# Altium footprint library PcbLib1.PcbLib: 12 footprints
Each footprint in its own frame and in the unit in brackets; x right, y up, seen from the top. Pads: shape width x height; smd on the part's side, far side on the other; paste and mask are expansions set on the pad; w line width, h text height; cw(c..) or ccw(c..) is an arc to the next point about the centre after c.
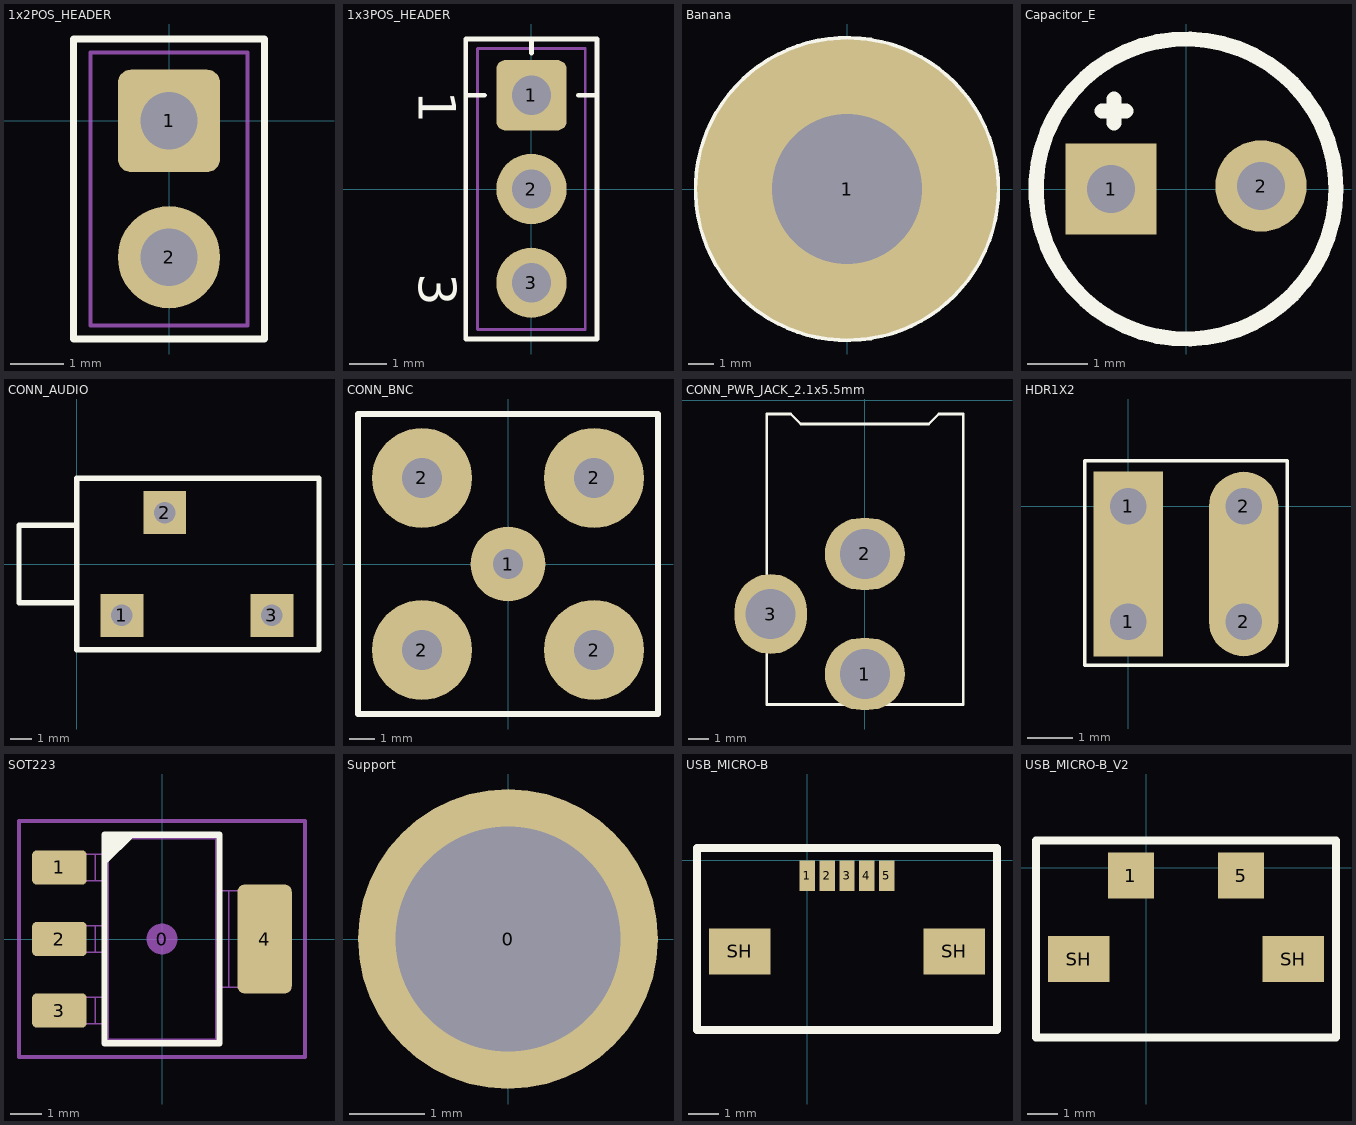
[diagram p0: the footprints below, top view; thin cyan lines are the x and y axes]

## 1x2POS_HEADER [mil] "Connector Header, Single-row 3-position, 0.100\" pitch"
height 235
pads (2):
  rrect25% 75x75 hole 42: 1(0,0)
  round 75 hole 42: 2(0,-100)
Top Overlay:
  lines w5: -70,-160 70,-160 70,60 -70,60 -70,-160
Mechanical 13:
  lines w3: -57.47,-150 57.49,-150 57.49,50 -57.47,50 -57.47,-150

## 1x3POS_HEADER [mil] "Connector Header, Single-row 3-position, 0.100\" pitch"
height 235
pads (3):
  rrect25% 75x75 hole 42: 1(0,100)
  round 75 hole 42: 2(0,0) 3(0,-100)
Top Overlay:
  lines w5: -70,100 -50,100 ; 0,145 0,160 ; 50,100 70,100 ; -70,-160 -70,160 70,160 70,-160 -70,-160
  text "3" at -120,-90 h40
  text "1" at -120,105 h40
Mechanical 13:
  lines w3: -57.47,-150 -57.47,150 57.49,150 57.49,-150 -57.47,-150
3D body: height 335.04, standoff -144.88, extent -57.47,-150 57.49,150

## Banana [mm] "Female"
pads (1):
  round 12 hole 6: 1(0,0)
Top Overlay:
  circle w0.254: c0,0 r6

## Capacitor_E [mm]
pads (2):
  rect 1.524x1.524 hole 0.8: 1(-1.25,0)
  round 1.524 hole 0.8: 2(1.25,0.05)
Top Overlay:
  circle w0.254: c0,0 r2.5
  lines w0.254: -1.4,1.3 -1.2,1.3 ; -1.2,1.1 -1.2,1.3 ; -1.2,1.5 -1.2,1.3 ; -1,1.3 -1.2,1.3
3D body: height 1.5, standoff -12, extent -2.493,-2.45 2.493,2.55

## CONN_AUDIO [mm]
pads (3):
  rect 2x2 hole 1: 1(2.1,-2.4) 2(4.1,2.4) 3(9.1,-2.4)
Top Overlay:
  lines w0.254: 0,-1.8 -2.7,-1.8 -2.7,1.8 0,1.8 ; 0,-4 0,4 11.3,4 11.3,-4 0,-4

## CONN_BNC [mm]
pads (5):
  round 3 hole 1.2: 1(0,0)
  round 4 hole 1.6: 2(-3.44,-3.44) 2(-3.44,3.44) 2(3.44,-3.44) 2(3.44,3.44)
Top Overlay:
  lines w0.254: -6,-6 -6,6 6,6 6,-6 -6,-6

## CONN_PWR_JACK_2.1x5.5mm [mm] "Power Connector, 2.1mm ID, 5.5mm OD"
height 11
pads (3):
  oval 4x3.6 hole 2.5: 1(0,-13.7) 2(0,-7.7)
  oval 3.6x4 hole 2.5: 3(-4.7,-10.7)
Top Overlay:
  lines w0.127: -4.9,-12.4 -4.9,-15.225 4.925,-15.225 4.925,-0.7 3.7,-0.7 3.2,-1.2 -3.2,-1.2 -3.7,-0.7 -4.9,-0.7 -4.9,-9
Mechanical 13:
  lines w0.076: -4.9,-12.4 -4.9,-15.225 4.925,-15.225 4.925,-0.7 3.7,-0.7 3.2,-1.2 -3.2,-1.2 -3.7,-0.7 -4.9,-0.7 -4.9,-9
3D body: height 11, standoff -3.5, extent -4.9,-14.1 4.5,0

## HDR1X2 [mil] "Connector; Header; 2 Position"
pads (4):
  rect 60x160 hole 31.5 copper offset 0,50: 1(0,-100)
  rect 60x160 hole 31.5 copper offset 0,-50: 1(0,0)
  oval 60x160 hole 31.5 copper offset 0,50: 2(100,-100)
  oval 60x160 hole 31.5 copper offset 0,-50: 2(100,0)
Top Overlay:
  lines w3: -37.87,-137.8 137.8,-137.8 137.8,39.37 -37.87,39.37 -37.87,-137.8

## SOT223 [mm] "SOT223 /SC-73"
height 1.524
pads (5):
  round 1 on Mech15: 0(0,0)
  rrect25% 1.75x1.1 smd: 1(-3.3,2.3) 2(-3.3,0) 3(-3.3,-2.3)
  rrect25% 1.75x3.5 smd: 4(3.3,0)
Top Overlay:
  region: -1.85,3.35 -0.85,3.35 -1.85,2.35
  lines w0.2: -1.85,-3.35 1.85,-3.35 1.85,3.35 -1.85,3.35 -1.85,-3.35
Mechanical 13:
  lines w0.05: -3.186,-2.72 -3.186,-1.88 ; -3.186,-0.42 -3.186,0.42 ; -3.186,1.88 -3.186,2.72 ; -3.062,-2.72 -3.062,-1.88 ; -3.062,-0.42 -3.062,0.42 ; -3.062,1.88 -3.062,2.72 ; -2.506,-2.72 -2.506,-1.88 ; -2.506,-0.42 -2.506,0.42 ; -2.506,1.88 -2.506,2.72 ; -2.152,-2.72 -2.152,-1.88 ; -2.152,-0.42 -2.152,0.42 ; -2.152,1.88 -2.152,2.72 ; -1.85,-2.72 -1.85,-3.35 ; -1.85,-1.88 -1.85,-0.42 ; -1.85,0.42 -1.85,1.88 ; -1.85,2.72 -1.85,3.35 ; 1.85,-1.55 1.85,-3.35 ; 1.85,1.55 1.85,3.35 ; 2.152,-1.55 2.152,1.55 ; 2.506,-1.55 2.506,1.55 ; 3.062,-1.55 3.062,1.55 ; 3.186,-1.55 3.186,1.55 ; -1.85,-3.35 1.85,-3.35 ; -1.85,-3.35 -1.731,-3.231 ; -1.85,3.35 1.85,3.35 ; -1.85,3.35 -1.731,3.231 ; -1.731,-3.231 -1.731,3.231 ; -1.731,-3.231 1.731,-3.231 ; -1.731,3.231 1.731,3.231 ; 1.731,-3.231 1.731,3.231 ; 1.731,-3.231 1.85,-3.35 ; 1.731,3.231 1.85,3.35 ; -3.65,-2.72 -1.829,-2.72 -1.829,-1.88 -3.65,-1.88 -3.65,-2.72 ; -3.65,-0.42 -1.829,-0.42 -1.829,0.42 -3.65,0.42 -3.65,-0.42 ; -3.65,1.88 -1.829,1.88 -1.829,2.72 -3.65,2.72 -3.65,1.88 ; 1.829,-1.55 1.829,1.55 3.65,1.55 3.65,-1.55 1.829,-1.55
Mechanical 15:
  lines w0.127: -4.6,-3.8 4.6,-3.8 4.6,3.8 -4.6,3.8 -4.6,-3.8
3D body: height 1.8, standoff 0, extent -3.65,-3.35 3.65,3.35

## Support [mm]
pads (1):
  round 4 hole 3: 0(0,0)

## USB_MICRO-B [mm]
pads (7):
  rect 0.5x1 smd: 1(0,-0.5) 2(0.65,-0.5) 3(1.3,-0.5) 4(1.95,-0.5) 5(2.6,-0.5)
  rect 2x1.5 smd: SH(-2.2,-2.975) SH(4.8,-2.975)
Top Overlay:
  lines w0.254: -3.6,-5.54 -3.6,0.4 6.2,0.4 6.2,-5.54 -3.6,-5.54

## USB_MICRO-B_V2 [mm]
pads (4):
  rect 1.5x1.5 smd: 1(-0.5,-0.25) 5(3.1,-0.25)
  rect 2x1.5 smd: SH(-2.2,-2.975) SH(4.8,-2.975)
Top Overlay:
  lines w0.254: -3.6,-5.54 6.2,-5.54 6.2,0.9 -3.6,0.9 -3.6,-5.54